# EAGLE library part K-HEADER-FEMALE-1X7- (library elpp-v1.1)
FEMALE HEADER
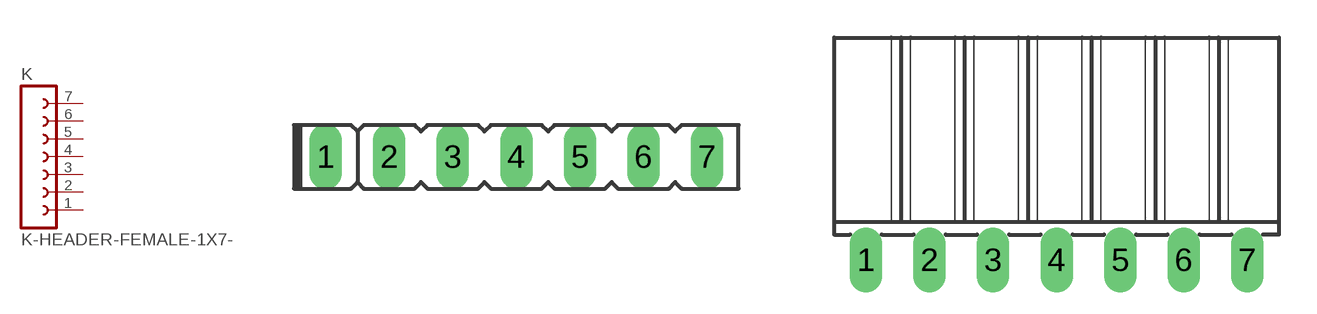
[diagram p19: symbol with the pads of EPP-SIL-F-7-WAY; footprints EPP-SIL-F-7-WAY, EPP-SIL-F-7-WAY-90DEG]

Designator prefix K

## K-HEADER-FEMALE-1X7-V (FARNELL: 9728856; RS: unknown)  [EPP-SIL-F-7-WAY]
1  1  pas
2  2  pas
3  3  pas
4  4  pas
5  5  pas
6  6  pas
7  7  pas

## K-HEADER-FEMALE-1X7-H (FARNELL: 9728880; RS: unknown)  [EPP-SIL-F-7-WAY-90DEG]
Pads as for EPP-SIL-F-7-WAY

## Footprint EPP-SIL-F-7-WAY (pad centres in mm)
FEMALE HEADER, 1 row
drill 0.8 long: 1 -7.62,0; 2 -5.08,0; 3 -2.54,0; 4 0,0; 5 2.54,0; 6 5.08,0; 7 7.62,0

## Footprint EPP-SIL-F-7-WAY-90DEG (pad centres in mm)
FEMALE HEADER, 1 row, 90 degrees
drill 0.8 long: 1 -7.62,0; 2 -5.08,0; 3 -2.54,0; 4 0,0; 5 2.54,0; 6 5.08,0; 7 7.62,0